# Altium schematic symbol library Optics.SchLib: 10 symbols
Pins are listed as number, name and electrical type; pins without a type are passive.

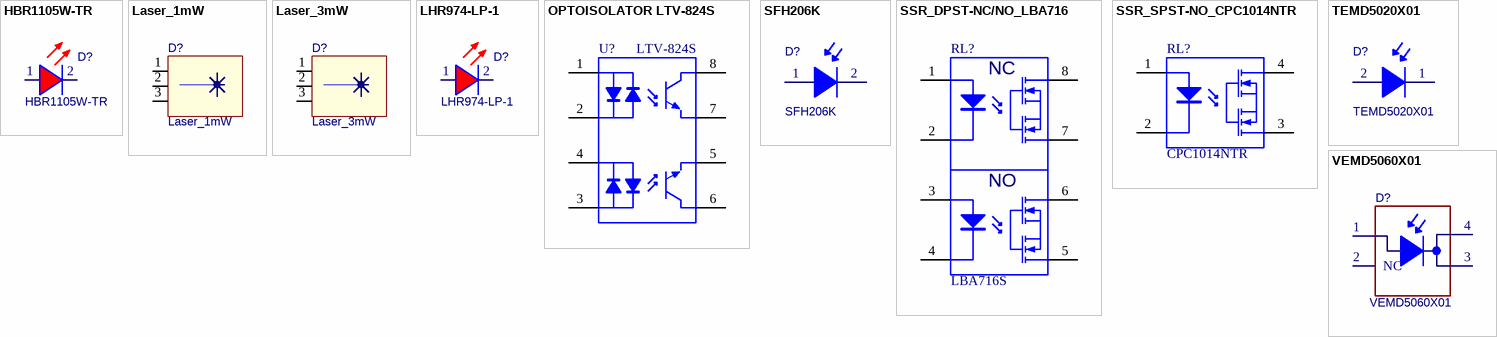
[diagram p0: symbols HBR1105W-TR to VEMD5060X01]

## HBR1105W-TR
designator D?
LED Red Clear 647nm(HBR) 1.7V 1206; Manufacturer: Stanley Electric; TZOA PN: 250-00001; Chip Material: GaAlAs; DELETED: Compliant; Forward Current: 30 mA; Forward Voltage: 2 V; High Brightness: No; Lum Intensity: 50mcd; Main Category: Chip LED; Number of  Elements: 1; Peak Wavelength: 660 nm; Power Dissipation: 60 W; Product Depth (mm): 1.6 mm; Product Height (mm): 1.85 mm; Product Length (mm): 3.2 mm; Reverse Voltage: 4 V; Shape Type: Circular; Test Current (It): 20 mA; Type: Uni-Color; Viewing Angle: 50 deg; Supplier 1: Digi-Key; Manufacturer Part Number: HBR1105W-TR; Stock 1: 28229; Pricing 1: 1=0.49, 10=0.35, 25=0.286, 100=0.2288, 250=0.193, 500=0.1645, 1000=0.1287 (USD); Dominant Wave Length: 647 nm; Emitting Color: Red; Lens Dimensions: 1.6x1.6x0.8 mm; Luminous Intensity: 50mcd; Mounting: Surface Mount; Operating Temp Range: -40C to 100C; Operating Temperature Classification: Industrial; Package Type: SMD; Packaging: Cut Tape (CT); Pin Count: 2; Rad Hardened: No; ComponentLink1URL: https://datasheet.ciiva.com/26835/getdatasheetpartid-310016-26835335.pdf; ComponentLink1Description: https://datasheet.ciiva.com/26835/getdatasheetpartid-310016-26835335.pdf; Supplier Part Number 1: 404-1033-1-ND
footprint 1206 LED
pins: 1, 2

## Laser_1mW
designator D?
Laser Module, 650nm, 1mW, 25um, 8mm OD; Manufacturer: PROPHOTONIX; Manufacturer Part Number: 300-0852-02; Supplier 1: PROPHOTONIX; Supplier 2: Arrow; Supplier Part Number 1: 300-0852-02; Supplier Part Number 2: Non Franchise
footprint Laser Solder
pins: 1 Cathode, 2 Cathode, 3 Cathode

## Laser_3mW
designator D?
Laser Module, 650nm, 3mW, 40um, 8mm OD; Manufacturer: PROPHOTONIX; Manufacturer Part Number: 300-0852-06; TZOA PN: 400-00003; Supplier 1: PROPHOTONIX; Supplier 2: Arrow; Supplier Part Number 1: 300-0852-06; Supplier Part Number 2: Non Franchise
footprint Laser Solder
pins: 1 Cathode, 2 Cathode, 3 Cathode

## LHR974-LP-1
designator D?
Emitter,645nm,Red,1.8V,0805; Manufacturer: OSRAM Opto Semiconductors Inc.; Lens Color: White; Lens Transparency: Diffused; Millicandela Rating: 41mcd; Lens Style/Size: Rectangle with Flat Top, 1.30mm x 1.25mm; Current - Test: 20mA; Viewing Angle: 160°; Wavelength - Peak: 660nm; ID: 1901732; Supplier 1: Digi-Key; Supplier Part Number 1: 475-1415-1-ND; Manufacturer Part Number: LH R974-LP-1; RoHS: RoHS Compliant; Category: Optoelectronics; Stock: 97329; Pricing: 1=0.37, 10=0.265, 25=0.1956, 100=0.1399, 250=0.09512, 500=0.08392, 1000=0.06573 (CAD); Packaging: Cut Tape (CT); Color: Red; Voltage - Forward (Vf) (Typ): 1.8V; Mounting Type: Surface Mount; Wavelength - Dominant: 645nm; Features: -; Package / Case: 0805 (2012 Metric); Supplier Device Package: *; Size / Dimension: 2.00mm L x 1.25mm W; Height (Max): 0.90mm; ComponentLink1URL: http://www.osram-os.com/Graphics/XPic8/00078869_0.pdf; ComponentLink1Description: http://www.osram-os.com/Graphics/XPic8/00078869_0.pdf; Supplier 2: Arrow; Supplier Part Number 2: ut2cEzVWEwWUeTh6dJ2ayxstBOX7pp62Kj-OZXNOhH8; Package Quantity: 1; ComponentLink2URL: https://www.arrow.com/en/products/lhr974-lp-1/osram-opto-semiconductors/; ComponentLink2Description: https://www.arrow.com/en/products/lhr974-lp-1/osram-opto-semiconductors/
footprint R2012[0805] (3DModel=0805.ogl)
pins: 1, 2

## OPTOISOLATOR LTV-824S
designator U?, comment LTV-824S
Optoisolator, 2 Channels, 8-SMD; Manufacturer: Vishay Lite-On; TZOA PN: XXX; CTR-Min: 20 %; Isolation Voltage-Max: 5000 V; No of Channels: 2; Output Voltage-Max: 35 V; Supplier 1: Digi-Key; Manufacturer Part Number: LTV-824S; Stock 1: 16018; Pricing 1: 1=0.8, 10=0.626, 25=0.5184, 100=0.447, 250=0.3934, 500=0.3397, 1000=0.2682, 2500=0.2503, 5000=0.2414 (USD); Operating Temp-Max: 100 °C; ComponentLink1URL: https://datasheet.ciiva.com/15118/getdatasheetpartid-68467-15118464.pdf; ComponentLink1Description: https://datasheet.ciiva.com/15118/getdatasheetpartid-68467-15118464.pdf; ComponentLink2URL: https://datasheet.ciiva.com/19475/1996330-19475616.pdf; ComponentLink2Description: https://datasheet.ciiva.com/19475/1996330-19475616.pdf; ComponentLink3URL: https://datasheet.ciiva.com/2086/s-110-ltv-814824844m-s-s-ta-s-ta1-s-tpseries-2086380.pdf; ComponentLink3Description: https://datasheet.ciiva.com/2086/s-110-ltv-814824844m-s-s-ta-s-ta1-s-tpseries-2086380.pdf; ComponentLink4URL: https://datasheet.ciiva.com/26912/ltv-824s-26912933.pdf; ComponentLink4Description: https://datasheet.ciiva.com/26912/ltv-824s-26912933.pdf; Supplier Part Number 1: 160-1347-5-ND
footprint Optoisolator_8-SMD
pins: 1 A1 "Anode", 2 K1 "Cathode", 3 A2 "Anode", 4 K2 "Cathode", 5 E2 "Emitter", 6 C2 "Collector", 7 E1 "Emitter", 8 C1 "Collector"

## SFH206K
designator D?
Photodiode Through Hole Right Angle; Manufacturer: Osram; Description: OSRAM         SFH206K             PHOTODIODE; No. of Pins: 2Pins; Diode Case Style: T-1 3/4 (5mm); Wavelength of Peak Sensitivity: 850nm; Angle of Half Sensitivity ±: 60°; Dark Current: 2000pA; SVHC: No SVHC (17-Dec-2015); Supplier 1: Digi-Key; Manufacturer Part Number: SFH206K; Stock 1: 1819; Pricing 1: 1=1.42, 10=1.15, 25=0.8848, 100=0.7963, 250=0.7079, 500=0.6017, 1000=0.4955, 2500=0.4707, 5000=0.4601 (USD); Operating Temperature Min: -40°C; Operating Temperature Max: 100°C; Packaging: Each; Product Range: -; Automotive Qualification Standard: -; MSL: -; ComponentLink1URL: https://datasheet.ciiva.com/14098/sfh206k-ger-eng-tds-14098562.pdf; ComponentLink1Description: https://datasheet.ciiva.com/14098/sfh206k-ger-eng-tds-14098562.pdf; ComponentLink2URL: https://datasheet.ciiva.com/1248/26602-1248867.pdf; ComponentLink2Description: https://datasheet.ciiva.com/1248/26602-1248867.pdf; ComponentLink3URL: https://datasheet.ciiva.com/4697/fh206k-pb-free-2007-03-30-51524-4697638.pdf; ComponentLink3Description: https://datasheet.ciiva.com/4697/fh206k-pb-free-2007-03-30-51524-4697638.pdf; ComponentLink4URL: https://datasheet.ciiva.com/15117/getdatasheetpartid-30587-15117113.pdf; ComponentLink4Description: https://datasheet.ciiva.com/15117/getdatasheetpartid-30587-15117113.pdf; ComponentLink5URL: https://datasheet.ciiva.com/25620/0900766b808b25c4-25620442.pdf; ComponentLink5Description: https://datasheet.ciiva.com/25620/0900766b808b25c4-25620442.pdf; ComponentLink6URL: https://datasheet.ciiva.com/1336/26602-1336269.pdf; ComponentLink6Description: https://datasheet.ciiva.com/1336/26602-1336269.pdf; ComponentLink7URL: https://datasheet.ciiva.com/29138/154069-da-01-ml-photodiode-pin-sfh206k-to92-osr-de-en-29138808.pdf; ComponentLink7Description: https://datasheet.ciiva.com/29138/154069-da-01-ml-photodiode-pin-sfh206k-to92-osr-de-en-29138808.pdf; Supplier Part Number 1: 475-1076-ND
footprint SFH 206K (SFH206K)
pins: 1 Anode, 2 Cathode

## SSR_DPST-NC/NO_LBA716
designator RL?, comment LBA716S
Relay, DPST-NC/NO, Solid State, 1A, 60V, 4-pin SOP; Manufacturer: IXYS; Manufacturer Part Number: LBA716STR; TZOA PN: XXX; Control Voltage Range: 0.9 VDC to 1.4 VDC; Load Voltage Rating: 60 VDC; Contact Form: SPST (1 Form A), SPST (1 Form B); Output Type: MOSFET; Brand: IXYS Integrated Circuits; Supplier 1: Digi-Key; Stock 1: 9934; Pricing 1: 1=7.59, 10=6.835, 25=6.2272, 100=5.6197, 250=5.164, 500=4.7084 (USD); Product Category: Solid State Relays - PCB Mount; Load Current Rating: 1 A; Package / Case: SMD DIP-8; Mounting Style: SMD/SMT; Height: 3.302 mm; Length: 9.652 mm; Packaging: Cut Tape (CT); Product: Power Relays; Series: LBA716; Factory Pack Quantity: 1000; Termination Style: Gull Wing Lead; Tradename: Clare; Width: 6.35 mm; ComponentLink1URL: https://datasheet.ciiva.com/6568/lba716-6568272.pdf; ComponentLink1Description: https://datasheet.ciiva.com/6568/lba716-6568272.pdf; ComponentLink2URL: https://datasheet.ciiva.com/6568/lba716-6568267.pdf; ComponentLink2Description: https://datasheet.ciiva.com/6568/lba716-6568267.pdf; ComponentLink3URL: https://datasheet.ciiva.com/6568/lba716-6568269.pdf; ComponentLink3Description: https://datasheet.ciiva.com/6568/lba716-6568269.pdf; Supplier Part Number 1: CLA307CT-ND
footprint SSR_8-SMD
pins: 1 A1 "Anode", 2 K1 "Cathode", 3 A2 "Anode", 4 K2 "Cathode", 5 L4 "Emitter", 6 L3 "Collector", 7 L2 "Emitter", 8 L1 "Collector"
text: NC; NO

## SSR_SPST-NO_CPC1014NTR
designator RL?, comment CPC1014NTR
Relay, SPST-NO, Solid State, 0.4A, 60V, 4-pin SOP; Manufacturer: Ixys Clare; Load Voltage Rating: 60 VDC; Load Current Rating: 400 mA; Contact Form: SPST (1 Form A); Output Type: MOSFET; Brand: IXYS Integrated Circuits; Input to Output Isolation Method: Optocoupler; TZOA PN: XXX; Supplier 1: Digi-Key; Manufacturer Part Number: CPC1014NTR; Stock 1: 81138; Pricing 1: 1=1.86, 10=1.682, 25=1.5016, 100=1.3514, 250=1.2012, 500=1.0511, 1000=0.8709 (USD); Product Category: Solid State Relays - PCB Mount; RoHS: True; Package / Case: SOP-4; Mounting Style: SMD/SMT; Height: 2.184 mm; Length: 4.089 mm; Packaging: Reel; Product: Sensing Relays; Series: CPC1014; Factory Pack Quantity: 2000; Termination Style: Gull Wing Lead; Tradename: Clare; Type: Miniature; Width: 3.8 mm; ComponentLink1URL: https://datasheet.ciiva.com/16393/cpc1014n-16393176.pdf; ComponentLink1Description: https://datasheet.ciiva.com/16393/cpc1014n-16393176.pdf; ComponentLink2URL: https://datasheet.ciiva.com/2421/cpc1014n-2421259.pdf; ComponentLink2Description: https://datasheet.ciiva.com/2421/cpc1014n-2421259.pdf; ComponentLink3URL: https://datasheet.ciiva.com/2421/cpc1014n-2421260.pdf; ComponentLink3Description: https://datasheet.ciiva.com/2421/cpc1014n-2421260.pdf; ComponentLink4URL: https://datasheet.ciiva.com/15709/cpc1014n-15709004.pdf; ComponentLink4Description: https://datasheet.ciiva.com/15709/cpc1014n-15709004.pdf; ComponentLink5URL: https://datasheet.ciiva.com/2421/cpc1014n-2421261.pdf; ComponentLink5Description: https://datasheet.ciiva.com/2421/cpc1014n-2421261.pdf; Supplier Part Number 1: CLA314CT-ND
footprint SSR_SOP-4
pins: 1 A "Anode", 2 K "Cathode", 3 L2 "Emitter", 4 L1 "Collector"

## TEMD5020X01
designator D?
Photodiode,SMD,900nm,4.4 x 4.4mm; Manufacturer: Vishay Semiconductor Opto Division; Spectral Range: 430nm ~ 1100nm; Diode Type: PIN; Response Time: 100ns; Voltage - DC Reverse (Vr) (Max): 60V; Current - Dark (Typ): 2nA; Active Area: 4.4mm²; Viewing Angle: 130°; ID: 2322273; Supplier 1: Digi-Key; RoHS: RoHS Compliant; Category: Sensors, Transducers; Stock 1: 10456; Pricing 1: 1=2.55, 10=2.047, 25=1.5636, 100=1.4212, 250=1.2506, 500=1.05166, 750=0.93796 (CAD); Packaging: Cut Tape (CT); Wavelength: 900nm; Color - Enhanced: -; Responsivity @ nm: -; Operating Temperature: -40°C ~ 100°C; Mounting Type: Surface Mount; Package / Case: 4-SMD, No Lead; ComponentLink1URL: http://www.vishay.com/docs/84685/temd5020.pdf; ComponentLink1Description: http://www.vishay.com/docs/84685/temd5020.pdf; Supplier 2: Arrow; Stock 2: 22; Pricing 2: 1=1.722, 10=1.436, 25=1.401, 100=1.391 (USD); Package Quantity: 1; ComponentLink2URL: https://www.arrow.com/en/products/temd5020x01/vishay/; ComponentLink2Description: https://www.arrow.com/en/products/temd5020x01/vishay/; Supplier Part Number 1: 751-1047-1-ND; Supplier Part Number 2: E02Xh8khwpxYr3I1PRUm3tTWdvrW0GCwhpzMkYbNARM; Manufacturer Part Number: TEMD5020X01
footprint TEMD5020X01 (Vishay 4.5mm fast photodiode)
pins: 1 Cathode, 2 Anode

## VEMD5060X01
designator D?
PHOTODIODE 820nm 30ns 130° 4-SMD with Thermal Tab; Manufacturer: Vishay Semiconductor Opto Division; Spectral Range: 350nm ~ 1070nm; Diode Type: PIN; Voltage - DC Reverse (Vr) (Max): 20V; Current - Dark (Typ): 0.2nA; Active Area: 7.5 mm²; TZOA PN: 281-00001; Supplier 1: Digi-Key; RoHS: RoHS Compliant; Category: Sensors, Transducers; Stock 1: 1104; Pricing 1: 1=2.55, 10=2.047, 25=1.5636, 100=1.4212, 250=1.2506, 500=1.05166, 750=0.93796 (CAD); Packaging: Cut Tape (CT); Wavelength: 820nm; Color - Enhanced: -; Responsivity @ nm: -; Response Time: 30 ns; Viewing Angle: 130°; Operating Temperature: -40°C to +110°C; Mounting Type: Surface Mount; Package / Case: 4-SMD, No Lead; ComponentLink1URL: http://www.vishay.com/docs/84278/vemd5060x01.pdf; ComponentLink1Description: http://www.vishay.com/docs/84278/vemd5060x01.pdf; Supplier 2: Arrow; Stock 2: 987; Pricing 2: 1=1.722, 10=1.436, 25=1.401, 100=1.391 (USD); Package Quantity: 1; ComponentLink2URL: https://www.arrow.com/en/products/vemd5060x01/vishay; ComponentLink2Description: https://www.arrow.com/en/products/vemd5060x01/vishay; Supplier Part Number 1: VEMD5060X01CT-ND; Supplier Part Number 2: VEMD5060X01; Manufacturer Part Number: VEMD5060X01
footprint VEMD5060X01
pins: 1 Anode, 2 NC, 3 Cathode, 4 Cathode